# Altium schematic symbol library IPB039N10N3-PGTO263_3.Schlib: 1 symbol
Pins are listed as number, name and electrical type; pins without a type are passive.

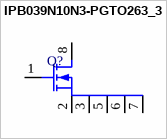
[diagram p0: symbol IPB039N10N3-PGTO263_3]

## IPB039N10N3-PGTO263_3
designator Q?  (value not drawn)
pins: 1 G, 2 D, 3 D, 5 D, 6 D, 7 D, 8 S